# Altium schematic symbol library TVS_6CHAN_BI.SchLib: 1 symbol
Pins are listed as number, name and electrical type; pins without a type are passive.

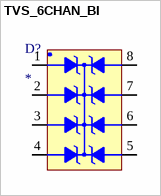
[diagram p0: symbol TVS_6CHAN_BI]

## TVS_6CHAN_BI
designator D?
Value: *
pins: 1, 2 I/O2, 3 I/O3, 4 GND, 5 GND1, 6 I/O4, 7 I/O5, 8 I/O6